# Altium schematic symbol library TIMER_555.SchLib: 1 symbol
Pins are listed as number, name and electrical type; pins without a type are passive.

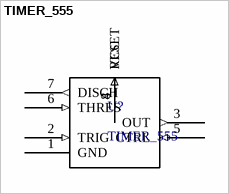
[diagram p0: symbol TIMER_555]

## TIMER_555
designator U?
555 Timer IC symbol
pins: 1 GND (power), 2 TRIG (in), 3 OUT (out), 4 RESET (in), 5 CTRL (in), 6 THRES (in), 7 DISCH (out), 8 VCC (power)